# EAGLE library part IC_74AUP2G08 (library dp_devices)
Dual 2 input NAND Gate Low Power SN74AUP2G08 <http://www.ti.com/lit/ds/sces681c/sces681c.pdf>
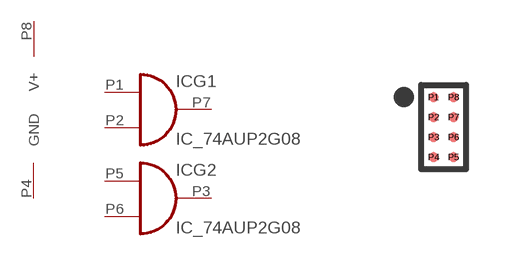
[diagram p142: symbol with the pads of DSBGA-8_TI_R-XBGA-N8; footprint DSBGA-8_TI_R-XBGA-N8]

Designator prefix IC; gates G1=LOGIC_AND G2=LOGIC_AND S1=SUPPLY

## IC_74AUP2G08  [DSBGA-8_TI_R-XBGA-N8]
P1  G1:I0  in
P2  G1:I1  in
P3  G2:O  out
P4  S1:GND  sup
P5  G2:I0  in
P6  G2:I1  in
P7  G1:O  out
P8  S1:V+  sup

## Footprint DSBGA-8_TI_R-XBGA-N8 (pad centres in mm)
smd 0.25 x 0.25: P1 -0.25,0.75; P2 -0.25,0.25; P3 -0.25,-0.25; P4 -0.25,-0.75; P5 0.25,-0.75; P6 0.25,-0.25; P7 0.25,0.25; P8 0.25,0.75